# Altium footprint library Transistors.PcbLib: 3 footprints
Each footprint in its own frame and in the unit in brackets; x right, y up, seen from the top. Pads: shape width x height; smd on the part's side, far side on the other; paste and mask are expansions set on the pad; w line width, h text height; cw(c..) or ccw(c..) is an arc to the next point about the centre after c.
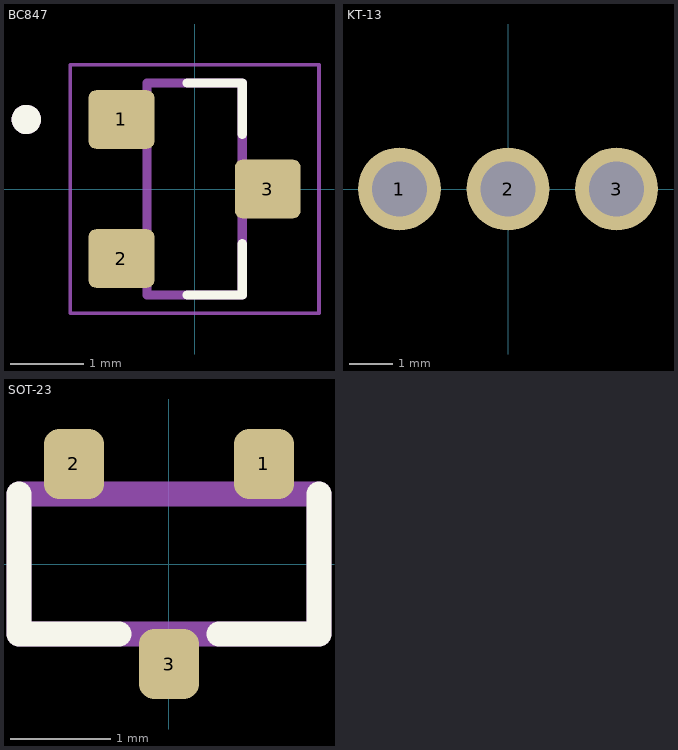
[diagram p0: the footprints below, top view; thin cyan lines are the x and y axes]

## BC847 [mm]
pads (3):
  rrect25% 0.9x0.8 smd: 1(-1,0.95) 2(-1,-0.95) 3(1,0)
Top Overlay:
  circle w0.2: c-2.3,0.95 r0.1
  lines w0.127: -0.1,-1.45 0.65,-1.45 0.65,-0.75 ; -0.1,1.45 0.65,1.45 0.65,0.75
Mechanical 13:
  circle w0.2: c-2.3,0.95 r0.1
  lines w0.127: -0.65,-1.45 -0.65,1.45 0.65,1.45 0.65,-1.45 -0.65,-1.45
Mechanical 15:
  lines w0.05: -1.7,-1.7 -1.7,1.7 1.7,1.7 1.7,-1.7 -1.7,-1.7
3D body "step_temp.STEP": height 1.2, standoff -0.1, extent -1.33,-1.52 1.27,1.52

## KT-13 [mm]
pads (3):
  round 1.905 hole 1.27: 1(-2.5,0) 2(0,0) 3(2.5,0)
3D body "KT-13.STEP": height 5.72, standoff -1.27, extent -3.6,-1.349 3.6,1.651

## SOT-23 [mm] "2N7002.215"
height 1.1
pads (3):
  rrect50% 0.6x0.7 smd mask+0.102: 1(0.95,1) 2(-0.95,1) 3(0,-1)
Top Overlay:
  lines w0.254: -1.5,0.7 -1.5,-0.7 -0.5,-0.7 ; 0.5,-0.7 1.5,-0.7 1.5,0.7
Mechanical 1:
  lines w0.254: -1.5,-0.7 1.5,-0.7 1.5,0.7 -1.5,0.7 -1.5,-0.7
3D body "SOT-23 (TVS Diode).stp": height 1, standoff 0, extent -1.45,-1.1 1.45,1.2